# EAGLE library part 74540 (library rgb_cube)
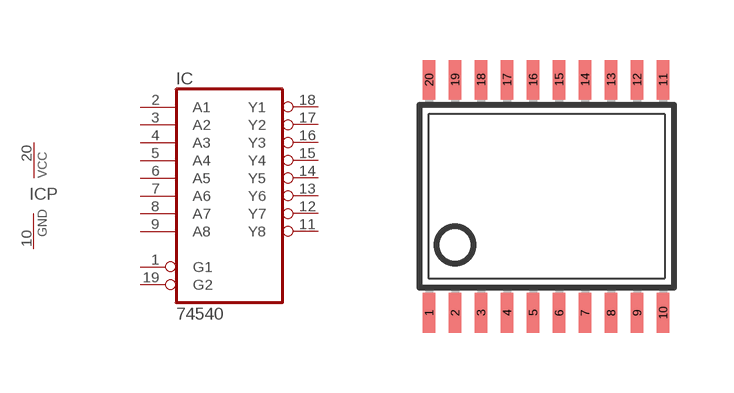
[diagram p73: symbol with the pads of TSSOP-20; footprint TSSOP-20]

Designator prefix IC; gates =74540 P=PWRGND

## 74540PW  [TSSOP-20]
1  :G1  in
2  :A1  in
3  :A2  in
4  :A3  in
5  :A4  in
6  :A5  in
7  :A6  in
8  :A7  in
9  :A8  in
10  P:GND  pwr
11  :Y8  hiz
12  :Y7  hiz
13  :Y6  hiz
14  :Y5  hiz
15  :Y4  hiz
16  :Y3  hiz
17  :Y2  hiz
18  :Y1  hiz
19  :G2  in
20  P:VCC  pwr

## Footprint TSSOP-20 (pad centres in mm)
smd 0.305 x 0.991: 1 -2.305,-2.918; 2 -1.655,-2.918; 3 -1.005,-2.918; 4 -0.355,-2.918; 5 0.295,-2.918; 6 0.945,-2.918; 7 1.595,-2.918; 8 2.245,-2.918; 9 2.895,-2.918; 10 3.545,-2.918; 11 3.545,2.918; 12 2.895,2.918; 13 2.245,2.918; 14 1.595,2.918; 15 0.945,2.918; 16 0.295,2.918; 17 -0.355,2.918; 18 -1.005,2.918; 19 -1.655,2.918; 20 -2.305,2.918